# Altium footprint library Optical Sensors - Photodiodes.PcbLib: 5 footprints
Each footprint in its own frame and in the unit in brackets; x right, y up, seen from the top. Pads: shape width x height; smd on the part's side, far side on the other; paste and mask are expansions set on the pad; w line width, h text height; cw(c..) or ccw(c..) is an arc to the next point about the centre after c.
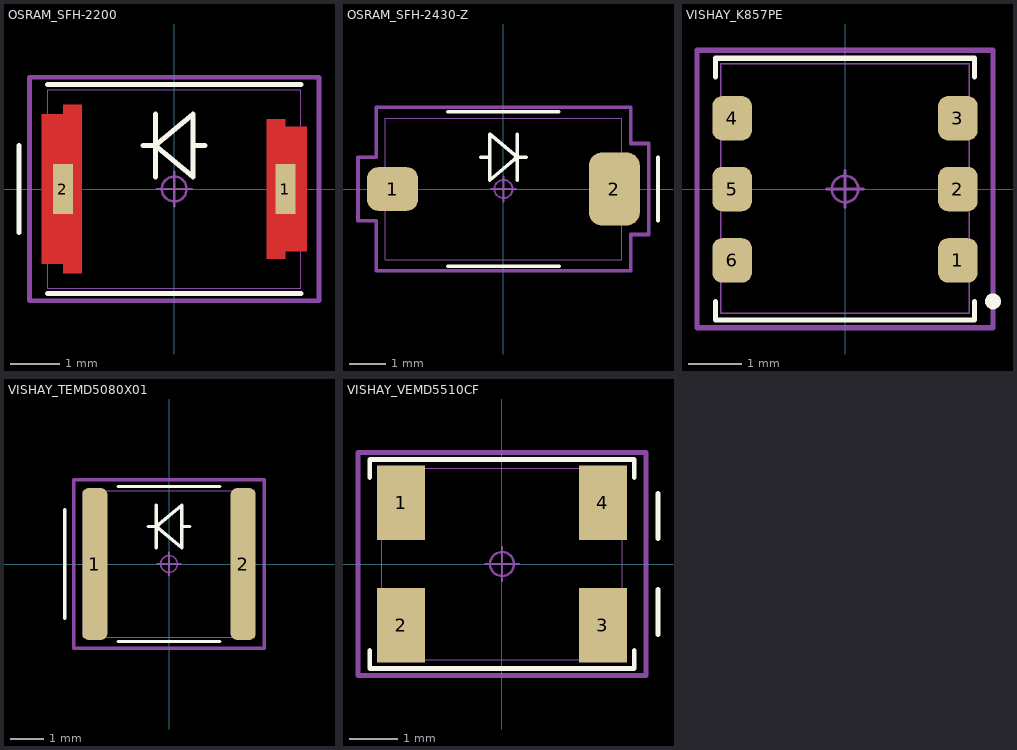
[diagram p0: the footprints below, top view; thin cyan lines are the x and y axes]

## OSRAM_SFH-2200 [mm]
pads (2):
  rect 0.4x1 smd paste-1 mask+0: 1(2.24,0) 2(-2.24,0)
Top Layer:
  region: 2.235,1.25 2.665,1.25 2.665,-1.25 2.235,-1.25 2.235,-1.4 1.865,-1.4 1.865,1.4 2.235,1.4
  region: -1.865,-1.7 -2.235,-1.7 -2.235,-1.5 -2.665,-1.5 -2.665,0 -2.665,1.5 -2.235,1.5 -2.235,1.7 -1.865,1.7
Top Overlay:
  lines w0.1: -3.125,-0.875 -3.125,0.875 ; -2.55,-2.1 2.55,-2.1 ; -2.55,2.1 2.55,2.1 ; -0.625,0.875 -0.4,0.875 ; -0.381,0.24 -0.381,1.51 ; 0.4,0.875 0.625,0.875 ; -0.381,0.875 0.381,1.51 0.381,0.24 -0.381,0.875
Top Paste:
  region: 2.565,0.2 1.965,0.2 1.965,1.2 2.565,1.2
  region: 2.565,-1.2 1.965,-1.2 1.965,-0.2 2.565,-0.2
  region: -1.965,-1.15 -2.565,-1.15 -2.565,-0.15 -1.965,-0.15
  region: -1.965,0.15 -2.565,0.15 -2.565,1.15 -1.965,1.15
Top Solder:
  region: 2.285,1.3 2.715,1.3 2.715,-1.3 2.285,-1.3 2.285,-1.45 1.815,-1.45 1.815,1.45 2.285,1.45
  region: -1.815,-1.75 -2.285,-1.75 -2.285,-1.55 -2.715,-1.55 -2.715,1.55 -2.285,1.55 -2.285,1.75 -1.815,1.75
Mechanical 13:
  lines w0.025: -0.625,0.875 -0.4,0.875 ; -0.381,0.24 -0.381,1.51 ; 0.4,0.875 0.625,0.875 ; -2.545,-2 -2.545,2 2.545,2 2.545,-2 -2.545,-2 ; -0.381,0.875 0.381,1.51 0.381,0.24 -0.381,0.875
Mechanical 15:
  circle w0.05: c0,0 r0.25
  lines w0.05: -0.35,0 0.35,0 ; 0,-0.35 0,0.35
  lines w0.1: -2.915,-2.25 -2.915,2.25 2.915,2.25 2.915,-2.25 -2.915,-2.25
3D body "SFH_2200_20170928_geometry.STEP": height 0.85, standoff 0, extent -2.545,-2 2.545,2

## OSRAM_SFH-2430-Z [mm]
pads (2):
  rrect50% 1.4x1.2 smd mask+0.04: 1(-3.05,0)
  rrect50% 1.4x2 smd mask+0.04: 2(3.05,0)
Top Overlay:
  lines w0.1: -1.525,-2.125 1.526,-2.125 ; -1.525,2.124 1.525,2.124 ; -0.625,0.875 -0.4,0.875 ; 0.381,0.24 0.381,1.51 ; 0.4,0.875 0.625,0.875 ; 4.25,-0.875 4.25,0.875 ; -0.381,0.24 -0.381,1.51 0.381,0.875 -0.381,0.24
Mechanical 13:
  lines w0.025: -0.625,0.875 -0.4,0.875 ; 0.381,0.24 0.381,1.51 ; 0.4,0.875 0.625,0.875 ; -3.25,-1.95 3.25,-1.95 3.25,1.95 -3.25,1.95 -3.25,-1.95 ; -0.381,0.24 -0.381,1.51 0.381,0.875 -0.381,0.24
Mechanical 15:
  circle w0.05: c0,0 r0.25
  lines w0.05: -0.35,0 0.35,0 ; 0,-0.35 0,0.35
  lines w0.1: -4,-0.875 -3.5,-0.875 -3.5,-2.25 3.5,-2.25 3.5,-1.25 4,-1.25 4,1.25 3.5,1.25 3.5,2.25 -3.5,2.25 -3.5,0.875 -4,0.875 -4,-0.875
3D body "SFH_2430_100414_geometry.STEP": height 1.2, standoff 0, extent -3.25,-1.95 3.25,1.95

## VISHAY_K857PE [mm]
pads (6):
  rrect50% 0.75x0.84 smd paste+0 mask+0.04: 1(2.135,-1.35) 2(2.135,0) 3(2.135,1.34) 4(-2.135,1.34) 5(-2.135,0) 6(-2.135,-1.35)
Top Overlay:
  circle w0.15: c2.8,-2.125 r0.075
  lines w0.1: -2.45,-2.125 -2.45,-2.475 2.45,-2.475 2.45,-2.125 ; -2.45,2.125 -2.45,2.475 2.45,2.475 2.45,2.125
Mechanical 13:
  lines w0.025: -2.35,-2.35 -2.35,2.375 2.35,2.375 2.35,-2.35 -2.35,-2.35
Mechanical 15:
  circle w0.05: c0,0 r0.25
  lines w0.05: -0.35,0 0.35,0 ; 0,-0.35 0,0.35
  lines w0.1: -2.8,-2.625 2.8,-2.625 2.8,2.627 -2.8,2.627 -2.8,-2.625
3D body "80171_K857PE_3D_Models.STP": height 0.75, standoff 0, extent -2.361,-2.345 2.36,2.375

## VISHAY_TEMD5080X01 [mm]
pads (2):
  rrect50% 0.75x4.55 smd paste+0 mask+0.04: 1(-2.225,0) 2(2.225,0)
Top Overlay:
  lines w0.1: -3.125,-1.625 -3.125,1.625 ; -1.525,-2.324 1.525,-2.324 ; -1.525,2.324 1.525,2.324 ; -0.625,1.125 -0.4,1.125 ; -0.381,0.49 -0.381,1.76 ; 0.4,1.125 0.625,1.125 ; -0.381,1.125 0.381,1.76 0.381,0.49 -0.381,1.125
Mechanical 13:
  lines w0.025: -0.625,1.125 -0.4,1.125 ; -0.381,0.49 -0.381,1.76 ; 0.4,1.125 0.625,1.125 ; -2.578,-2.197 2.578,-2.197 2.578,2.197 -2.578,2.197 -2.578,-2.197 ; -0.381,1.125 0.381,1.76 0.381,0.49 -0.381,1.125
Mechanical 15:
  circle w0.05: c0,0 r0.25
  lines w0.05: -0.35,0 0.35,0 ; 0,-0.35 0,0.35
  lines w0.1: -2.857,-2.527 -2.857,2.527 -2.832,2.527 2.832,2.527 2.857,2.527 2.857,-2.527 2.832,-2.527 -2.832,-2.527 -2.857,-2.527
3D body "TEMD5080X01.step": height 1.12, standoff 0, extent -2.531,-2.1 2.469,2.1

## VISHAY_VEMD5510CF [mm]
pads (4):
  rect 1x1.55 smd paste+0 mask+0.04: 1(-2.1,1.275) 2(-2.1,-1.275) 3(2.1,-1.275) 4(2.1,1.275)
Top Overlay:
  lines w0.1: -2.754,-1.803 -2.754,-2.175 2.75,-2.175 ; -2.754,1.803 -2.754,2.175 ; -2.75,2.175 2.754,2.175 2.754,1.803 ; 2.754,-2.175 2.754,-1.803 ; 3.25,-1.475 3.25,-0.525 ; 3.25,0.525 3.25,1.475
Mechanical 13:
  lines w0.025: -2.502,-1.994 2.502,-1.994 2.502,1.994 -2.502,1.994 -2.502,-1.994
Mechanical 15:
  circle w0.05: c0,0 r0.25
  lines w0.05: -0.35,0 0.35,0 ; 0,-0.35 0,0.35
  lines w0.1: -3,-2.325 -3,2.325 3,2.325 3,-2.325 -3,-2.325
3D body "SON_D5510C_VIS.step": height 1.04, standoff 0, extent -2.502,-1.994 2.502,1.994